# EAGLE library part 741-603 (library con-wago_741)
Serie 741, Durchführungsklemmenleiste 2 Lötstifte/Pol / Series 741, Feedthrough terminal strip 2 solder pins/pole Polzahl / Pole No.: 3 Rastermaß / Pitch: 10.16 mm Bemessungsspannung / Rated Voltage: 1000 V Nennstrom / Nominal Current: 16 A Leiterquerschnitt / Conductor Size: 0.08 - 2.5 mm² Anschlusstechnik / Connection Technology: CAGE CLAMP® Lötstiftlänge: / Solder Pin Length: 4 mm Leitereinführung (zur Platine) / Conductor entry angle (to PCB): 0 ° Farbe / Color: orange / orange Stand: 01.01.2012. Die jeweils aktuellen Daten zu diesem Artikel finden Sie in unserem Produktkatalog, den Sie unter www.wago.com einsehen können. As of: 01/01/2012. Please find the newest data for this article in our product catalogue, which can be viewed under www.wago.com.
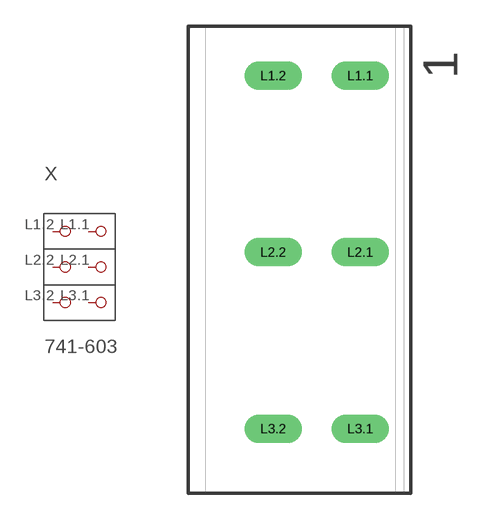
[diagram p83: symbol with the pads of P-741-603; footprint P-741-603]

Designator prefix X

## 741-603  [P-741-603]
L1.1  P1.1
L1.2  P1.2
L2.1  P2.1
L2.2  P2.2
L3.1  P3.1
L3.2  P3.2

## Footprint P-741-603 (pad centres in mm)
drill 1.1 long: L1.1 3.5,10.6; L1.2 -1.5,10.6; L2.1 3.5,0.44; L2.2 -1.5,0.44; L3.1 3.5,-9.72; L3.2 -1.5,-9.72